# Altium integrated library res0805.IntLib: 1 symbol
Pins are listed as number, name and electrical type; pins without a type are passive.

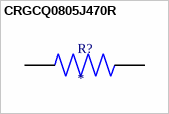
[diagram p0: symbol CRGCQ0805J470R]

## CRGCQ0805J470R
designator R?
Fixed Resistor CRGCQ 0805 470R 5%; MF: TE Connectivity; MP: CRGCQ0805J470R; SnapEDA_Link: https://www.snapeda.com/parts/CRGCQ0805J470R/TE+Connectivity/view-part/?ref=snap; Package: 2012 TE Connectivity; Value: *; Check_prices: https://www.snapeda.com/parts/CRGCQ0805J470R/TE+Connectivity/view-part/?ref=eda
footprint RESC2012X65N
pins: 1, 2